# Altium schematic symbol library DUE.SchLib: 4 symbols
Pins are listed as number, name and electrical type; pins without a type are passive.

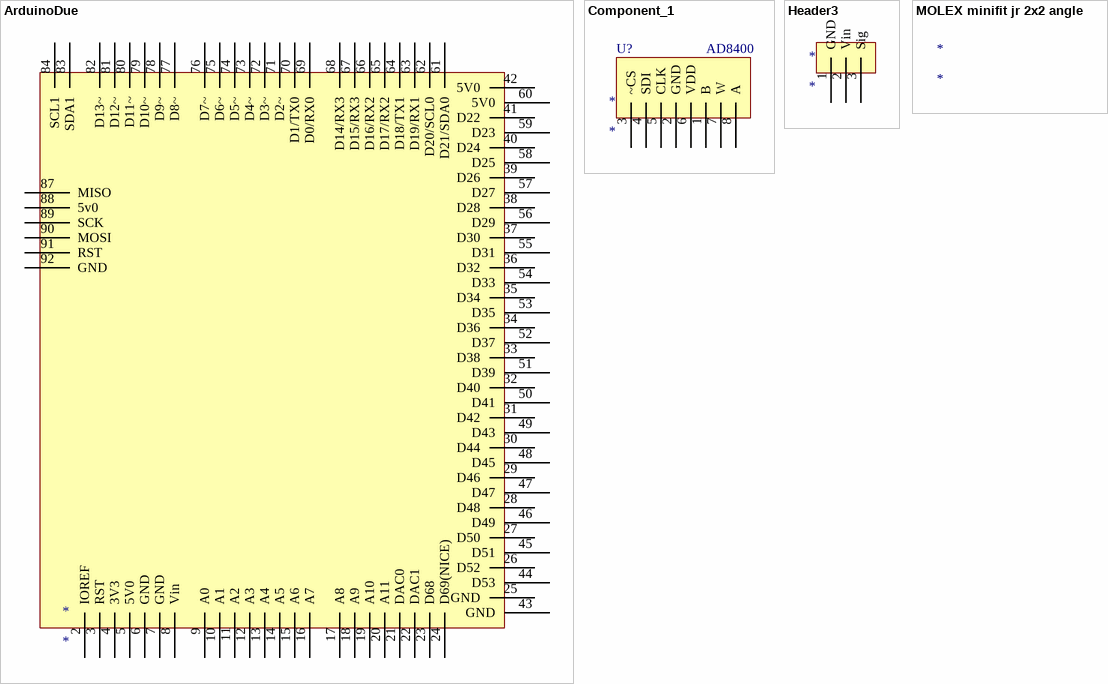
[diagram p0: symbols ArduinoDue to MOLEX minifit jr 2x2 angle]

## ArduinoDue
designator *
footprint Arduino Due (Arduino Due Ghost Footprint)
pins: 2 IOREF, 3 RST, 4 3V3, 5 5V0, 6 GND, 7 GND, 8 Vin, 9 A0, 10 A1, 11 A2, 12 A3, 13 A4, 14 A5, 15 A6, 16 A7, 17 A8, 18 A9, 19 A10, 20 A11, 21 DAC0, 22 DAC1, 23 D68, 24 D69(NICE), 25 GND, 26 D52, 27 D50, 28 D48, 29 D46, 30 D44, 31 D42, 32 D40, 33 D38, 34 D36, 35 D34, 36 D32, 37 D30, 38 D28, 39 D26, 40 D24, 41 D22, 42 5V0, 43 GND, 44 D53, 45 D51, 46 D49, 47 D47, 48 D45, 49 D43, 50 D41, 51 D39, 52 D37, 53 D35, 54 D33, 55 D31, 56 D29, 57 D27, 58 D25, 59 D23, 60 5V0, 61 D21/SDA0, 62 D20/SCL0, 63 D19/RX1, 64 D18/TX1, 65 D17/RX2, 66 D16/RX2, 67 D15/RX3, 68 D14/RX3, 69 D0/RX0, 70 D1/TX0, 71 D2~, 72 D3~, 73 D4~, 74 D5~, 75 D6~, 76 D7~, 77 D8~, 78 D9~, 79 D10~, 80 D11~, 81 D12~, 82 D13~, 83 SDA1, 84 SCL1, 87 MISO, 88 5v0, 89 SCK, 90 MOSI, 91 RST, 92 GND

## Component_1
designator *
footprint AD8400(SOIC8) (SOIC, 8-Leads, Body 4.90x3.90mm, Pitch 1.27mm, IPC Low Density)
pins: 1 B, 2 GND, 3 ~CS, 4 SDI, 5 CLK, 6 VDD, 7 W, 8 A
text: U?; AD8400

## Header3
designator *
footprint Header3
pins: 1 GND, 2 Vin, 3 Sig

## MOLEX minifit jr 2x2 angle
designator *
footprint MOLEX minifit jr 2x2 angle